# Altium footprint library chip.PcbLib: 89 footprints (part 5 of 6)
Each footprint in its own frame and in the unit in brackets; x right, y up, seen from the top. Pads: shape width x height; smd on the part's side, far side on the other; paste and mask are expansions set on the pad; w line width, h text height; cw(c..) or ccw(c..) is an arc to the next point about the centre after c.
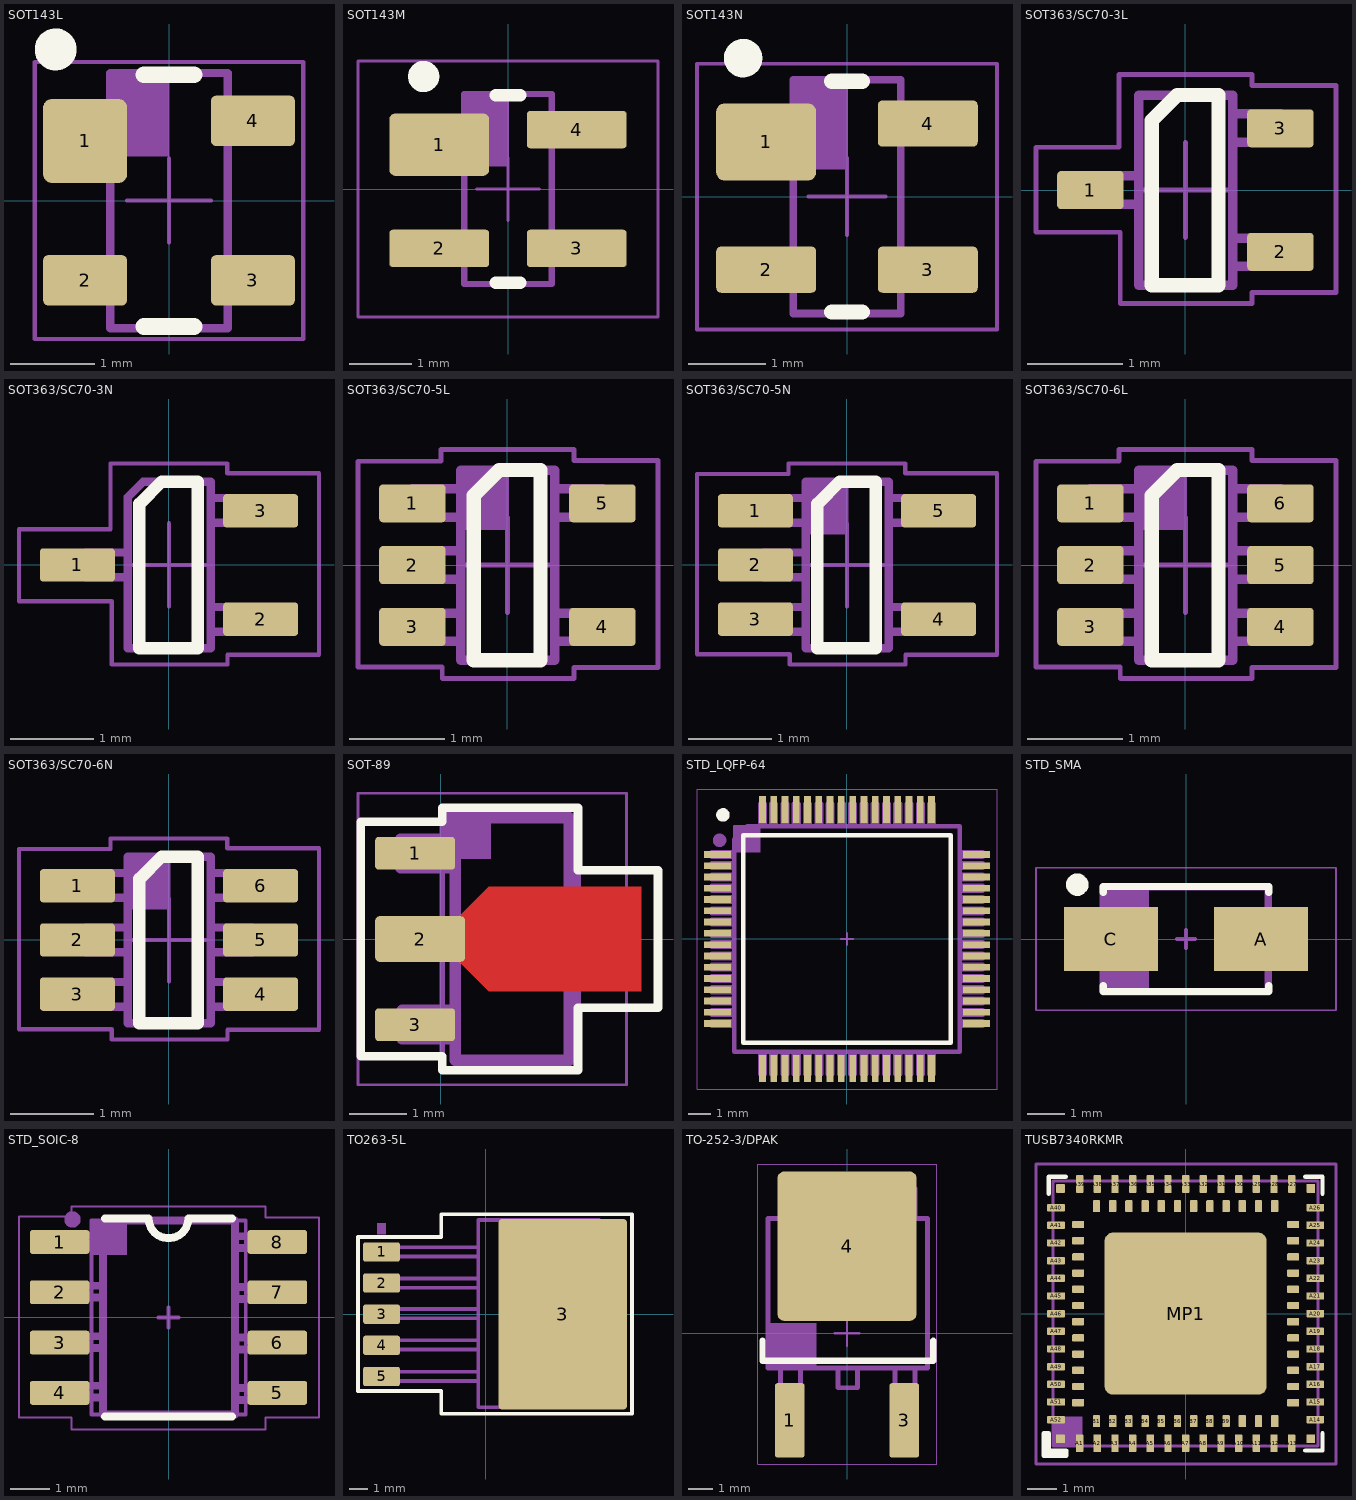
[diagram p4: the footprints below, top view; thin cyan lines are the x and y axes]

## SOT143L [mm] "SOT143, 4-Leads, Body 2.9x1.3mm, Pitch 1.9mm, Lead Span 2.5mm, IPC High Density"
height 1.1
pads (4):
  rrect20% 1x1 smd: 1(-1,0.71)
  rrect20% 1x0.6 smd: 2(-1,-0.95) 3(1,-0.95) 4(1,0.95)
Top Overlay:
  circle w0.25: c-1.35,1.8 r0.125
  lines w0.2: -0.3,-1.5 0.3,-1.5 ; -0.3,1.5 0.3,1.5
Top Assembly:
  rectangle: -0.699,0.523 -0.002,1.495
  lines w0.1: -0.7,-1.52 0.7,-1.52 0.7,1.52 -0.7,1.52 -0.7,-1.52
Top Courtyard:
  lines w0.05: -0.5,0 0.5,0 ; 0,-0.5 0,0.5 ; -1.6,-1.65 1.6,-1.65 1.6,1.65 -1.6,1.65 -1.6,-1.65
3D body "SOT23-4.step": height 1.1, standoff 0, extent -1.25,-1.5 1.25,1.5

## SOT143M [mm] "SOT143, 4-Leads, Body 2.9x1.3mm, Pitch 1.9mm, Lead Span 2.5mm, IPC Low Density"
height 1.1
pads (4):
  rrect20% 1.6x1 smd: 1(-1.1,0.71)
  rrect20% 1.6x0.6 smd: 2(-1.1,-0.95) 3(1.1,-0.95) 4(1.1,0.95)
Top Overlay:
  circle w0.25: c-1.35,1.8 r0.125
  lines w0.2: -0.2,-1.5 0.2,-1.5 ; -0.2,1.5 0.2,1.5
Top Assembly:
  rectangle: -0.699,0.361 0.014,1.53
  lines w0.1: -0.7,-1.52 0.7,-1.52 0.7,1.52 -0.7,1.52 -0.7,-1.52
Top Courtyard:
  lines w0.05: -0.5,0 0.5,0 ; 0,-0.5 0,0.5 ; -2.4,-2.05 2.4,-2.05 2.4,2.05 -2.4,2.05 -2.4,-2.05
3D body "SOT23-4.step": height 1.1, standoff 0, extent -1.262,-1.499 1.238,1.501

## SOT143N [mm] "SOT143, 4-Leads, Body 2.9x1.3mm, Pitch 1.9mm, Lead Span 2.5mm, IPC Medium Density"
height 1.1
pads (4):
  rrect20% 1.3x1 smd: 1(-1.05,0.71)
  rrect20% 1.3x0.6 smd: 2(-1.05,-0.95) 3(1.05,-0.95) 4(1.05,0.95)
Top Overlay:
  circle w0.25: c-1.35,1.8 r0.125
  lines w0.2: -0.2,-1.5 0.2,-1.5 ; -0.2,1.5 0.2,1.5
Top Assembly:
  rectangle: -0.664,0.351 0.013,1.53
  lines w0.1: -0.7,-1.52 0.7,-1.52 0.7,1.52 -0.7,1.52 -0.7,-1.52
Top Courtyard:
  lines w0.05: -0.5,0 0.5,0 ; 0,-0.5 0,0.5 ; -1.95,-1.727 1.95,-1.727 1.95,1.727 -1.95,1.727 -1.95,-1.727
3D body "SOT23-4.step": height 1.1, standoff 0, extent -1.237,-1.505 1.263,1.495

## SOT363/SC70-3L [mm]
height 1.1
pads (3):
  rrect20% 0.7x0.4 smd: 1(-1,0) 2(1,-0.65) 3(1,0.65)
Top Overlay:
  lines w0.15: -0.355,-1 0.347,-1 0.347,1 -0.087,1 -0.355,0.732 -0.355,-1
Top Designator:
  text ".Designator" at -2.699,1.7 h0.6
Top Assembly:
  lines w0.1: -0.501,-0.149 -1,-0.149 -1,0.149 -0.501,0.149 ; 0.502,-0.803 1.002,-0.803 1.002,-0.505 0.502,-0.505 ; 0.502,0.505 1.002,0.505 1.002,0.803 0.502,0.803 ; -0.494,-0.999 0.5,-0.999 0.5,0.997 -0.494,0.997 -0.494,-0.999
Top Courtyard:
  lines w0.05: -0.5,0 0.5,0 ; 0,-0.5 0,0.5 ; -1.573,-0.443 -1.573,0.451 -0.7,0.451 -0.7,1.217 0.7,1.217 0.7,1.1 1.584,1.1 1.584,-1.077 0.702,-1.077 0.702,-1.194 -0.687,-1.194 -0.687,-0.443 -1.573,-0.443
3D body "SC70-3.step": height 1.1, standoff 0, extent -1.05,-1 1.05,1

## SOT363/SC70-3N [mm]
height 1.1
pads (3):
  rrect20% 0.9x0.4 smd: 1(-1.1,0) 2(1.1,-0.65) 3(1.1,0.65)
Top Overlay:
  lines w0.15: -0.355,-1 -0.355,0.732 -0.087,1 0.347,1 0.347,-1 -0.355,-1
Top Designator:
  text ".Designator" at -2.899,1.7 h0.6
Top Assembly:
  lines w0.1: -0.501,-0.149 -1,-0.149 -1,0.149 -0.501,0.149 ; 0.502,-0.803 1.002,-0.803 1.002,-0.505 0.502,-0.505 ; 0.502,0.505 1.002,0.505 1.002,0.803 0.502,0.803 ; -0.494,-0.999 -0.494,0.815 -0.311,0.997 0.5,0.997 0.5,-0.999 -0.494,-0.999
Top Courtyard:
  lines w0.05: -0.5,0 0.5,0 ; 0,-0.5 0,0.5 ; -1.8,-0.435 -0.687,-0.435 -0.687,-1.194 0.702,-1.194 0.702,-1.077 1.8,-1.077 1.8,1.1 0.7,1.1 0.7,1.217 -0.7,1.217 -0.7,0.428 -1.8,0.428 -1.8,-0.435
3D body "SC70-3.step": height 1.1, standoff 0, extent -1.05,-1 1.05,1

## SOT363/SC70-5L [mm]
height 1.1
pads (5):
  rrect20% 0.7x0.4 smd: 1(-1,0.65) 2(-1,0) 3(-1,-0.65) 4(1,-0.65) 5(1,0.65)
Top Overlay:
  lines w0.15: -0.355,-1 -0.355,0.732 -0.087,1 0.347,1 0.347,-1 -0.355,-1
Top Designator:
  text ".Designator" at -2.699,1.7 h0.6
Top Assembly:
  rectangle: -0.496,0.368 0.016,0.993
  lines w0.1: -0.502,-0.803 -1.002,-0.803 -1.002,-0.505 -0.502,-0.505 ; -0.502,0.505 -1.002,0.505 -1.002,0.803 -0.502,0.803 ; -0.501,-0.149 -1,-0.149 -1,0.149 -0.501,0.149 ; 0.502,-0.803 1.002,-0.803 1.002,-0.505 0.502,-0.505 ; 0.502,0.505 1.002,0.505 1.002,0.803 0.502,0.803 ; -0.494,-0.999 -0.494,0.997 0.5,0.997 0.5,-0.999 -0.494,-0.999
Top Courtyard:
  lines w0.05: -0.5,0 0.5,0 ; 0,-0.5 0,0.5 ; -1.573,-1.072 -0.687,-1.072 -0.687,-1.194 0.702,-1.194 0.702,-1.077 1.584,-1.077 1.584,1.1 0.7,1.1 0.7,1.217 -0.7,1.217 -0.7,1.093 -1.573,1.093 -1.573,-1.072
3D body "SC70-5.step": height 1.1, standoff 0, extent -1.05,-1 1.05,1

## SOT363/SC70-5N [mm]
height 1.1
pads (5):
  rrect20% 0.9x0.4 smd: 1(-1.1,0.65) 2(-1.1,0) 3(-1.1,-0.65) 4(1.1,-0.65) 5(1.1,0.65)
Top Overlay:
  lines w0.15: -0.355,-1 -0.355,0.732 -0.087,1 0.347,1 0.347,-1 -0.355,-1
Top Designator:
  text ".Designator" at -2.899,1.7 h0.6
Top Assembly:
  rectangle: -0.496,0.368 0.016,0.993
  lines w0.1: -0.502,-0.803 -1.002,-0.803 -1.002,-0.505 -0.502,-0.505 ; -0.502,0.505 -1.002,0.505 -1.002,0.803 -0.502,0.803 ; -0.501,-0.149 -1,-0.149 -1,0.149 -0.501,0.149 ; 0.502,-0.803 1.002,-0.803 1.002,-0.505 0.502,-0.505 ; 0.502,0.505 1.002,0.505 1.002,0.803 0.502,0.803 ; -0.494,-0.999 -0.494,0.997 0.5,0.997 0.5,-0.999 -0.494,-0.999
Top Courtyard:
  lines w0.05: -0.5,0 0.5,0 ; 0,-0.5 0,0.5 ; -1.8,-1.072 -0.687,-1.072 -0.687,-1.194 0.702,-1.194 0.702,-1.077 1.8,-1.077 1.8,1.1 0.7,1.1 0.7,1.217 -0.7,1.217 -0.7,1.093 -1.8,1.093 -1.8,-1.072
3D body "SC70-5.step": height 1.1, standoff 0, extent -1.05,-1 1.05,1

## SOT363/SC70-6L [mm]
height 1.1
pads (6):
  rrect20% 0.7x0.4 smd: 1(-1,0.65) 2(-1,0) 3(-1,-0.65) 4(1,-0.65) 5(1,0) 6(1,0.65)
Top Overlay:
  lines w0.15: -0.355,-1 0.347,-1 0.347,1 -0.087,1 -0.355,0.732 -0.355,-1
Top Designator:
  text ".Designator" at -2.699,1.7 h0.6
Top Assembly:
  rectangle: -0.496,0.368 0.016,0.993
  lines w0.1: -0.502,-0.803 -1.002,-0.803 -1.002,-0.505 -0.502,-0.505 ; -0.502,0.505 -1.002,0.505 -1.002,0.803 -0.502,0.803 ; -0.501,-0.149 -1,-0.149 -1,0.149 -0.501,0.149 ; 0.501,-0.149 1,-0.149 1,0.149 0.501,0.149 ; 0.502,-0.803 1.002,-0.803 1.002,-0.505 0.502,-0.505 ; 0.502,0.505 1.002,0.505 1.002,0.803 0.502,0.803 ; -0.494,-0.999 0.5,-0.999 0.5,0.997 -0.494,0.997 -0.494,-0.999
Top Courtyard:
  lines w0.05: -0.5,0 0.5,0 ; 0,-0.5 0,0.5 ; -1.573,-1.072 -1.573,1.093 -0.7,1.093 -0.7,1.217 0.7,1.217 0.7,1.1 1.584,1.1 1.584,-1.077 0.702,-1.077 0.702,-1.194 -0.687,-1.194 -0.687,-1.072 -1.573,-1.072
3D body "SC70-6.step": height 1.1, standoff 0, extent -1.05,-1 1.05,1

## SOT363/SC70-6N [mm]
height 1.1
pads (6):
  rrect20% 0.9x0.4 smd: 1(-1.1,0.65) 2(-1.1,0) 3(-1.1,-0.65) 4(1.1,-0.65) 5(1.1,0) 6(1.1,0.65)
Top Overlay:
  lines w0.15: -0.355,-1 -0.355,0.732 -0.087,1 0.347,1 0.347,-1 -0.355,-1
Top Designator:
  text ".Designator" at -2.899,1.7 h0.6
Top Assembly:
  rectangle: -0.496,0.368 0.016,0.993
  lines w0.1: -0.502,-0.803 -1.002,-0.803 -1.002,-0.505 -0.502,-0.505 ; -0.502,0.505 -1.002,0.505 -1.002,0.803 -0.502,0.803 ; -0.501,-0.149 -1,-0.149 -1,0.149 -0.501,0.149 ; 0.501,-0.149 1,-0.149 1,0.149 0.501,0.149 ; 0.502,-0.803 1.002,-0.803 1.002,-0.505 0.502,-0.505 ; 0.502,0.505 1.002,0.505 1.002,0.803 0.502,0.803 ; -0.494,-0.999 -0.494,0.997 0.5,0.997 0.5,-0.999 -0.494,-0.999
Top Courtyard:
  lines w0.05: -0.5,0 0.5,0 ; 0,-0.5 0,0.5 ; -1.8,-1.072 -0.687,-1.072 -0.687,-1.194 0.702,-1.194 0.702,-1.077 1.8,-1.077 1.8,1.1 0.7,1.1 0.7,1.217 -0.7,1.217 -0.7,1.093 -1.8,1.093 -1.8,-1.072
3D body "SC70-6.step": height 1.1, standoff 0, extent -1.05,-1 1.05,1

## SOT-89 [mm] "SOT89, 3-Leads, Body 4.50x2.50mm, Pitch 1.50mm, Lead Span 3.3mm, IPC Medium Density"
height 1.6
pads (3):
  rrect20% 1.4x0.57 smd: 1(-0.45,1.5) 3(-0.45,-1.5)
  rrect20% 1.575x0.8 smd: 2(-0.362,0)
Top Layer:
  region: 0.305,0.381 0.838,0.914 3.505,0.914 3.505,-0.914 0.838,-0.914 0.305,-0.381
Top Overlay:
  lines w0.15: -1.4,-2.05 0.025,-2.05 0.025,-2.3 2.4,-2.3 2.4,-1.2 3.8,-1.2 3.8,1.2 2.4,1.2 2.4,2.3 0.025,2.3 0.025,2.05 -1.4,2.05 -1.4,-2.05
Bottom Dimensions:
  lines w0.2: 0.25,-1.75 -0.675,-1.75 -0.675,-1.25 0.25,-1.25 ; 0.25,-0.225 -0.675,-0.225 -0.675,0.225 0.25,0.225 ; 0.25,1.25 -0.7,1.25 -0.7,1.75 0.25,1.75 ; 2.249,-0.75 2.25,0.938 ; 0.25,-2.125 0.375,-2.125 2.25,-2.125 2.25,-0.75 3.35,-0.75 3.35,0.75 2.25,0.75 2.25,2.125 0.25,2.125 0.25,-2.125
  text ".Designator" at 4.175,2.325 h1
Top Assembly:
  rectangle: 0.064,1.4 0.875,2.288
  lines w0.1: 0.022,-2.3 2.4,-2.3 2.4,2.3 0.022,2.3 0.022,-2.3
Top Courtyard:
  lines w0.05: -1.45,-2.55 3.25,-2.55 3.25,2.55 -1.45,2.55 -1.45,-2.55
  lines w0.1: 0.823,0 1.823,0 ; 1.322,-0.5 1.322,0.5
3D body "SOT-89.STEP": height 1.5, standoff 0, extent -0.875,-2.25 3.275,2.25

## STD_LQFP-64 [mm]
pads (64):
  rect 1.2x0.3 smd mask+0.025: 1(-5.75,3.75) 2(-5.75,3.25) 3(-5.75,2.75) 4(-5.75,2.25) 5(-5.75,1.75) 6(-5.75,1.25) 7(-5.75,0.75) 8(-5.75,0.25) 9(-5.75,-0.25) 10(-5.75,-0.75) 11(-5.75,-1.25) 12(-5.75,-1.75) 13(-5.75,-2.25) 14(-5.75,-2.75) 15(-5.75,-3.25) 16(-5.75,-3.75) 33(5.75,-3.75) 34(5.75,-3.25) 35(5.75,-2.75) 36(5.75,-2.25) 37(5.75,-1.75) 38(5.75,-1.25) 39(5.75,-0.75) 40(5.75,-0.25) 41(5.75,0.25) 42(5.75,0.75) 43(5.75,1.25) 44(5.75,1.75) 45(5.75,2.25) 46(5.75,2.75) 47(5.75,3.25) 48(5.75,3.75)
  rect 0.3x1.2 smd mask+0.025: 17(-3.75,-5.75) 18(-3.25,-5.75) 19(-2.75,-5.75) 20(-2.25,-5.75) 21(-1.75,-5.75) 22(-1.25,-5.75) 23(-0.75,-5.75) 24(-0.25,-5.75) 25(0.25,-5.75) 26(0.75,-5.75) 27(1.25,-5.75) 28(1.75,-5.75) 29(2.25,-5.75) 30(2.75,-5.75) 31(3.25,-5.75) 32(3.75,-5.75) 49(3.75,5.75) 50(3.25,5.75) 51(2.75,5.75) 52(2.25,5.75) 53(1.75,5.75) 54(1.25,5.75) 55(0.75,5.75) 56(0.25,5.75) 57(-0.25,5.75) 58(-0.75,5.75) 59(-1.25,5.75) 60(-1.75,5.75) 61(-2.25,5.75) 62(-2.75,5.75) 63(-3.25,5.75) 64(-3.75,5.75)
Top Overlay:
  circle w0.3: c-5.5,5.5 r0.15
  lines w0.2: -4.6,-4.6 -4.6,4.6 4.6,4.6 4.6,-4.6 -4.6,-4.6
Bottom Dimensions:
  drawing of 262 lines, arcs and shapes, not listed
  text ".Designator" at 0.3,-0.35 h1
Top Assembly:
  rectangle: -4.999,3.842 -3.839,5.009
  lines w0.1: -6,-3.75 -5,-3.75 ; -6,-3.25 -5,-3.25 ; -6,-2.75 -5,-2.75 ; -6,-2.25 -5,-2.25 ; -6,-1.75 -5,-1.75 ; -6,-1.25 -5,-1.25 ; -6,-0.75 -5,-0.75 ; -6,-0.25 -5,-0.25 ; -6,0.25 -5,0.25 ; -6,0.75 -5,0.75 ; -6,1.25 -5,1.25 ; -6,1.75 -5,1.75 ; -6,2.25 -5,2.25 ; -6,2.75 -5,2.75 ; -6,3.25 -5,3.25 ; -6,3.75 -5,3.75 ; -3.75,-6 -3.75,-5 ; -3.75,5 -3.75,6 ; -3.25,-6 -3.25,-5 ; -3.25,5 -3.25,6 ; -2.75,-6 -2.75,-5 ; -2.75,5 -2.75,6 ; -2.25,-6 -2.25,-5 ; -2.25,5 -2.25,6 ; -1.75,-6 -1.75,-5 ; -1.75,5 -1.75,6 ; -1.25,-6 -1.25,-5 ; -1.25,5 -1.25,6 ; -0.75,-6 -0.75,-5 ; -0.75,5 -0.75,6 ; -0.25,-6 -0.25,-5 ; -0.25,5 -0.25,6 ; 0.25,-6 0.25,-5 ; 0.25,5 0.25,6 ; 0.75,-6 0.75,-5 ; 0.75,5 0.75,6 ; 1.25,-6 1.25,-5 ; 1.25,5 1.25,6 ; 1.75,-6 1.75,-5 ; 1.75,5 1.75,6 ; 2.25,-6 2.25,-5 ; 2.25,5 2.25,6 ; 2.75,-6 2.75,-5 ; 2.75,5 2.75,6 ; 3.25,-6 3.25,-5 ; 3.25,5 3.25,6 ; 3.75,-6 3.75,-5 ; 3.75,5 3.75,6 ; 5,-3.75 6,-3.75 ; 5,-3.25 6,-3.25 ; 5,-2.75 6,-2.75 ; 5,-2.25 6,-2.25 ; 5,-1.75 6,-1.75 ; 5,-1.25 6,-1.25 ; 5,-0.75 6,-0.75 ; 5,-0.25 6,-0.25 ; 5,0.25 6,0.25 ; 5,0.75 6,0.75 ; 5,1.25 6,1.25 ; 5,1.75 6,1.75 ; 5,2.25 6,2.25 ; 5,2.75 6,2.75 ; 5,3.25 6,3.25 ; 5,3.75 6,3.75 ; -5,-5 -5,5 5,5 5,-5 -5,-5
Top Courtyard:
  lines w0.05: -6.65,-6.65 -6.65,6.65 6.65,6.65 6.65,-6.65 -6.65,-6.65
  lines w0.1: -0.25,0 0.25,0 ; 0,-0.25 0,0.25
3D body "User Library-LQFP64_Grid_0_5.STEP": height 1.6, standoff 0, extent -6,-6 6,6

## STD_SMA [mm]
pads (2):
  rect 2.5x1.7 smd: A(2,0) C(-2,0)
Top Overlay:
  circle w0.4: c-2.9,1.45 r0.1
  lines w0.2: -2.2,-1.25 -2.2,-1.4 2.2,-1.4 2.2,-1.25 ; -2.2,1.25 -2.2,1.4 2.2,1.4 2.2,1.25
Bottom Dimensions:
  rectangle: -2.2,-1.4 -1.7,1.4
  lines w0.2: -2.2,-1.4 -2.2,1.4 2.2,1.4 2.2,-1.4 -2.2,-1.4
  text ".Designator" at -2,1.8 h1
Top Assembly:
  rectangle: -2.2,-1.4 -0.98,1.4
  lines w0.1: -2.2,-0.7 -2.7,-0.7 -2.7,0.7 -2.2,0.7 ; 2.2,-0.7 2.7,-0.7 2.7,0.7 2.2,0.7 ; -2.2,-1.4 -2.2,1.4 2.2,1.4 2.2,-1.4 -2.2,-1.4
Top Courtyard:
  lines w0.05: -4,-1.9 -4,1.9 4,1.9 4,-1.9 -4,-1.9
  lines w0.1: -0.25,0 0.25,0 ; 0,-0.25 0,0.25
3D body "DO-214AC_(SMA).step": height 2.6, standoff 0.03, extent -2.75,-1.4 2.75,1.4

## STD_SOIC-8 [mm]
pads (8):
  rrect20% 1.5x0.6 smd: 1(-2.75,1.905) 2(-2.75,0.635) 3(-2.75,-0.635) 4(-2.75,-1.905) 5(2.75,-1.905) 6(2.75,-0.635) 7(2.75,0.635) 8(2.75,1.905)
Top Overlay:
  lines w0.2: -1.6,-2.5 1.6,-2.5 ; -1.6,2.5 -0.5,2.5 ccw(c0,2.5) 0.5,2.5 1.6,2.5
Bottom Dimensions:
  circle w0.2: c-2.425,2.475 r0.106
  lines w0.2: -2.85,-2.025 -1.65,-2.025 -1.65,-1.725 -2.85,-1.725 -2.85,-2.025 ; -2.85,-0.775 -1.65,-0.775 -1.65,-0.475 -2.85,-0.475 -2.85,-0.775 ; -2.85,0.5 -1.65,0.5 -1.65,0.8 -2.85,0.8 -2.85,0.5 ; -2.85,1.775 -1.65,1.775 -1.65,2.075 -2.85,2.075 -2.85,1.775 ; -1.65,-2.45 1.675,-2.45 1.675,2.45 -1.4,2.45 -1.65,2.2 -1.65,-2.45 ; 1.675,1.75 2.875,1.75 2.875,2.05 1.675,2.05 1.675,1.75 ; 1.687,-2.079 2.887,-2.079 2.887,-1.779 1.687,-1.779 1.687,-2.079 ; 1.687,-0.804 2.887,-0.804 2.887,-0.504 1.687,-0.504 1.687,-0.804 ; 1.687,0.471 2.887,0.471 2.887,0.771 1.687,0.771 1.687,0.471
  text ".Designator" at -1.95,2.9 h1
Top Assembly:
  rectangle: -1.931,1.575 -1.05,2.463
  lines w0.1: -2.95,-1.905 -1.95,-1.905 ; -2.95,-0.635 -1.95,-0.635 ; -2.95,0.635 -1.95,0.635 ; -2.95,1.905 -1.95,1.905 ; 1.95,-1.905 2.95,-1.905 ; 1.95,-0.635 2.95,-0.635 ; 1.95,0.635 2.95,0.635 ; 1.95,1.905 2.95,1.905 ; -1.95,-2.45 1.95,-2.45 1.95,2.45 -1.95,2.45 -1.95,-2.45
Top Courtyard:
  lines w0.051: -3.775,-2.525 -3.775,2.55 -2.45,2.55 -2.45,2.8 2.45,2.8 2.45,2.525 3.8,2.525 3.8,-2.525 2.45,-2.525 2.45,-2.825 -2.45,-2.825 -2.45,-2.525 -3.775,-2.525
  lines w0.1: -0.25,0 0.25,0 ; 0,-0.25 0,0.25
3D body "SOIC-8.step": height 1.75, standoff 0, extent -3,-2.45 3,2.45

## TO263-5L [mm] "D2-PAK, 6-Pads, Body 7,35x8,36mm (max), IPC Medium Density"
height 4.6
pads (6):
  rrect20% 2x1.05 smd: 1(-5.7,3.4) 2(-5.7,1.7) 3(-5.7,0) 4(-5.7,-1.7) 5(-5.7,-3.4)
  rrect5% 7x10.4 smd: 3(4.2,0)
Top Overlay:
  lines w0.2: -6.985,-4.191 -6.985,4.216 -2.438,4.216 -2.438,5.461 0.711,5.461 7.976,5.461 7.976,-5.436 -2.438,-5.436 -2.438,-4.191 -6.985,-4.191
  text "." at -6.128,4.685 h7.62
Bottom Dimensions:
  lines w0.2: -5.925,-3.65 -0.425,-3.65 -0.425,-3.15 -5.925,-3.15 -5.925,-3.65 ; -5.925,-1.925 -0.425,-1.925 -0.425,-1.425 -5.925,-1.425 -5.925,-1.925 ; -5.925,-0.212 -0.425,-0.212 -0.425,0.288 -5.925,0.288 -5.925,-0.212 ; -5.925,1.45 -0.425,1.45 -0.425,1.95 -5.925,1.95 -5.925,1.45 ; -5.925,3.15 -0.425,3.15 -0.425,3.65 -5.925,3.65 -5.925,3.15 ; -0.425,-5.075 6.2,-5.075 6.2,5.15 -0.425,5.15 -0.425,-5.075 ; 6.225,-4.475 7.35,-4.475 7.35,4.55 6.225,4.55 6.225,-4.475
  text ".Designator" at 0.825,6.025 h1
Top Assembly:
  rectangle: -5.956,4.358 -5.444,4.983
Bottom Assembly:
  text "'.Designator'" at 1.975,0.5 h0.75
3D body "TO263-5L.step": height 4.6, standoff 0, extent -6.665,-5.05 7.685,5.05

## TO-252-3/DPAK [mm]
pads (3):
  rrect20% 1.2x3 smd: 1(-2.3,-3.5) 3(2.3,-3.5)
  rrect10% 5.6x6 smd paste-25.4: 4(0,3.5)
Top Overlay:
  lines w0.25: -3.4,-0.3 -3.4,-1.1 3.466,-1.1 3.466,-0.3
Top Paste:
  region: 0.25,1.025 2.25,1.025 2.25,2.275 0.25,2.275
  region: -2.25,1.025 -0.25,1.025 -0.25,2.275 -2.25,2.275
  region: 0.25,2.775 2.25,2.775 2.25,4.025 0.25,4.025
  region: 2.25,5.775 0.25,5.775 0.25,4.525 2.25,4.525
  region: -2.25,2.775 -0.25,2.775 -0.25,4.025 -2.25,4.025
  region: -2.25,4.525 -0.25,4.525 -0.25,5.775 -2.25,5.775
Top Designator:
  text ".Designator" at -2.899,7.1 h0.6
Top Assembly:
  rectangle: -3.121,-1.312 -1.225,0.42
  lines w0.2: -2.671,-1.389 -2.671,-3.989 -1.871,-3.989 -1.871,-1.389 ; -2.671,4.611 -2.671,5.811 -1.671,5.811 -1.671,5.411 1.729,5.411 1.729,5.811 2.729,5.811 2.729,4.611 ; -0.371,-1.389 -0.371,-2.189 0.429,-2.189 0.429,-1.389 ; 1.929,-1.389 1.929,-3.989 2.729,-3.989 2.729,-1.389 ; -3.171,-1.389 3.229,-1.389 3.229,1.611 3.229,4.611 -3.171,4.611 -3.171,1.611 -3.171,-1.389
Top Courtyard:
  lines w0.05: -3.593,-5.252 3.6,-5.252 3.6,6.8 -3.593,6.8 -3.593,-5.252
  lines w0.1: -0.5,0 0.5,0 ; 0,-0.5 0,0.5
3D body "User Library-DPAK_TO-252AA.STEP": height 2.37, standoff -0.03, extent -3.367,-4.023 3.367,6.077

## TUSB7340RKMR [mm]
pads (105):
  rrect20% 0.25x0.6 smd: A1(-3.6,-4.4) A2(-3,-4.4) A3(-2.4,-4.4) A4(-1.8,-4.4) A5(-1.2,-4.4) A6(-0.6,-4.4) A7(0,-4.4) A8(0.6,-4.4) A9(1.2,-4.4) A10(1.8,-4.4) A11(2.4,-4.4) A12(3,-4.4) A13(3.6,-4.4) A27(3.6,4.4) A28(3,4.4) A29(2.4,4.4) A30(1.8,4.4) A31(1.2,4.4) A32(0.6,4.4) A33(0,4.4) A34(-0.6,4.4) A35(-1.2,4.4) A36(-1.8,4.4) A37(-2.4,4.4) A38(-3,4.4) A39(-3.6,4.4)
  rrect20% 0.6x0.25 smd: A14(4.4,-3.6) A15(4.4,-3) A16(4.4,-2.4) A17(4.4,-1.8) A18(4.4,-1.2) A19(4.4,-0.6) A20(4.4,0) A21(4.4,0.6) A22(4.4,1.2) A23(4.4,1.8) A24(4.4,2.4) A25(4.4,3) A26(4.4,3.6) A40(-4.4,3.6) A41(-4.4,3) A42(-4.4,2.4) A43(-4.4,1.8) A44(-4.4,1.2) A45(-4.4,0.6) A46(-4.4,0) A47(-4.4,-0.6) A48(-4.4,-1.2) A49(-4.4,-1.8) A50(-4.4,-2.4) A51(-4.4,-3) A52(-4.4,-3.6)
  rrect20% 0.25x0.4 smd: B1(-3.025,-3.65) B2(-2.475,-3.65) B3(-1.925,-3.65) B4(-1.375,-3.65) B5(-0.825,-3.65) B6(-0.275,-3.65) B7(0.275,-3.65) B8(0.825,-3.65) B9(1.375,-3.65) B10(1.925,-3.65) B11(2.475,-3.65) B12(3.025,-3.65) B25(3.025,3.65) B26(2.475,3.65) B27(1.925,3.65) B28(1.375,3.65) B29(0.825,3.65) B30(0.275,3.65) B31(-0.275,3.65) B32(-0.825,3.65) B33(-1.375,3.65) B34(-1.925,3.65) B35(-2.475,3.65) B36(-3.025,3.65)
  rrect20% 0.4x0.25 smd: B13(3.65,-3.025) B14(3.65,-2.475) B15(3.65,-1.925) B16(3.65,-1.375) B17(3.65,-0.825) B18(3.65,-0.275) B19(3.65,0.275) B20(3.65,0.825) B21(3.65,1.375) B22(3.65,1.925) B23(3.65,2.475) B24(3.65,3.025) B37(-3.65,3.025) B38(-3.65,2.475) B39(-3.65,1.925) B40(-3.65,1.375) B41(-3.65,0.825) B42(-3.65,0.275) B43(-3.65,-0.275) B44(-3.65,-0.825) B45(-3.65,-1.375) B46(-3.65,-1.925) B47(-3.65,-2.475) B48(-3.65,-3.025)
  rrect20% 0.3x0.3 smd: C1(-4.25,-4.25) C2(4.25,-4.25) C3(4.25,4.25) C4(-4.25,4.25)
  rrect10% 5.5x5.5 smd: MP1(0,0)
Top Overlay:
  lines w0.15: -4.735,-4.066 -4.726,-4.729 -4.06,-4.738 ; -4.648,4.064 -4.648,4.648 -4.064,4.648 ; 4.064,-4.648 4.648,-4.648 4.648,-4.064 ; 4.064,4.648 4.648,4.648 4.648,4.064 ; -4.822,-4.827 -4.822,-4.068 -4.648,-4.064 -4.648,-4.648 -4.06,-4.648 -4.06,-4.827 -4.822,-4.827
Top Designator:
  text ".Designator" at -3.177,5.464 h0.6
Top Assembly:
  rectangle: -4.486,-4.462 -3.5,-3.5
  lines w0.1: -4.5,-4.496 -4.5,4.496 4.5,4.496 4.5,-4.496 -4.5,-4.496
Top Courtyard:
  lines w0.1: -0.475,0.025 0.525,0.025 ; 0.025,-0.475 0.025,0.525 ; -5.08,-5.105 -5.08,5.08 5.105,5.08 5.105,-5.105 -5.08,-5.105
3D body "TUSB7340RKMR.stp": height 0.8, standoff 0, extent -4.5,-4.5 4.5,4.5